# Altium footprint library 单灯控制器.PcbLib: 58 footprints (part 3 of 4)
Each footprint in its own frame and in the unit in brackets; x right, y up, seen from the top. Pads: shape width x height; smd on the part's side, far side on the other; paste and mask are expansions set on the pad; w line width, h text height; cw(c..) or ccw(c..) is an arc to the next point about the centre after c.
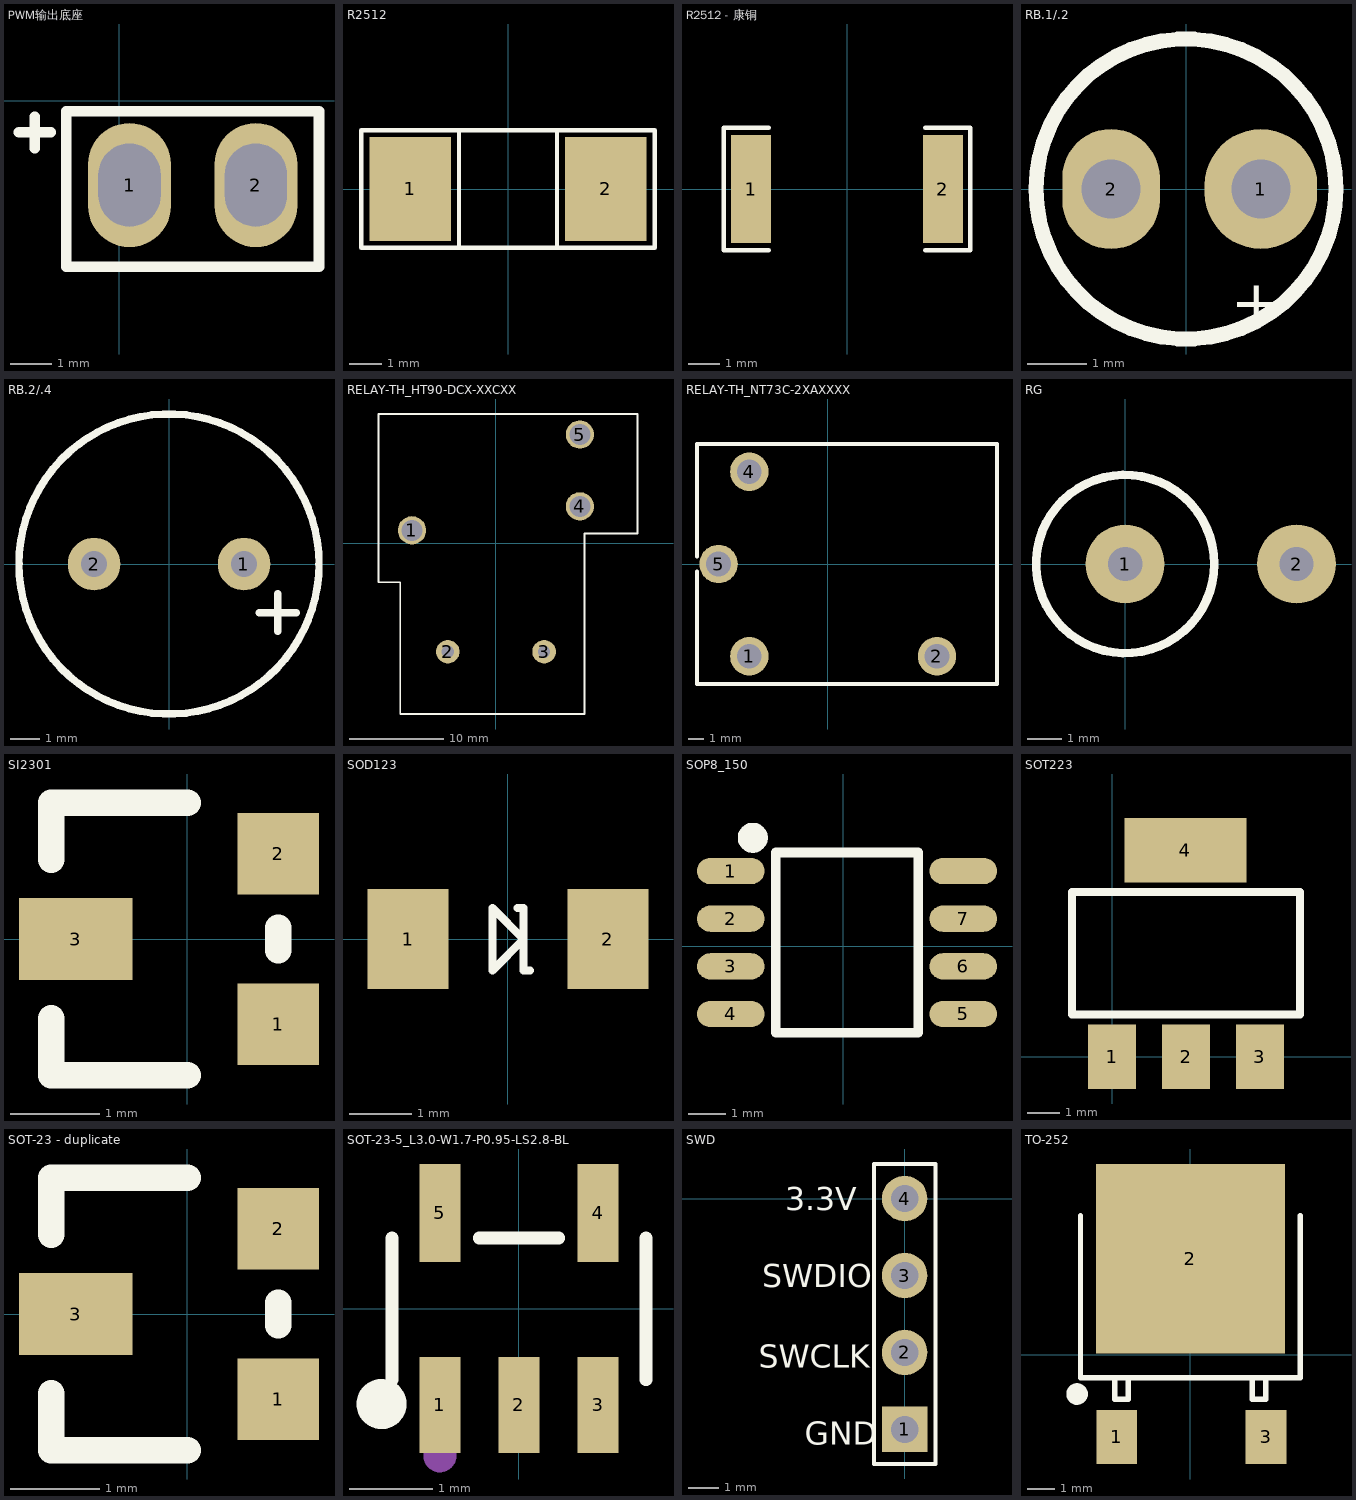
[diagram p2: the footprints below, top view; thin cyan lines are the x and y axes]

## PWM输出底座 [mm]
pads (2):
  oval 2x3 hole 2 slot 1.5 at 0 deg: 1(0.254,-2.032) 2(3.302,-2.032)
Top Overlay:
  lines w0.254: -2.413,-0.762 -1.651,-0.762 -2.159,-0.762 ; -2.032,-1.143 -2.032,-0.381 ; -1.27,-4 4.826,-4 4.826,-0.254 -1.27,-0.254 -1.27,-4

## R2512 [mm]
pads (2):
  rect 2.5x3.2 smd: 1(-3,0) 2(3,0)
Top Overlay:
  lines w0.127: -1.5,-1.8 -1.5,1.8 ; 1.5,-1.8 1.5,1.8 ; -4.5,-1.8 -4.5,1.8 4.5,1.8 4.5,-1.8 -4.5,-1.8

## R2512 - 康铜 [mm]
pads (2):
  rect 1.283x3.456 smd: 1(-3.066,0) 2(3.066,0)
Top Overlay:
  lines w0.152: -2.501,-1.957 -3.936,-1.957 -3.936,1.957 -2.501,1.957 ; 2.501,-1.957 3.936,-1.957 3.936,1.957 2.501,1.957
Top Paste:
  region: -2.425,-1.628 -2.425,-0.688 -2.525,-0.588 -2.761,-0.588 -2.861,-0.488 -2.861,0.488 -2.761,0.588 -2.525,0.588 -2.425,0.688 -2.425,1.628 -2.525,1.728 -3.608,1.728 -3.708,1.628 -3.708,-1.628 -3.608,-1.728 -2.525,-1.728
  region: 2.425,-1.628 2.425,-0.688 2.525,-0.588 2.761,-0.588 2.861,-0.488 2.861,0.488 2.761,0.588 2.525,0.588 2.425,0.688 2.425,1.628 2.525,1.728 3.608,1.728 3.708,1.628 3.708,-1.628 3.608,-1.728 2.525,-1.728

## RB.1/.2 [mil]
pads (2):
  oval 75x80 hole 39.37: 1(50,0)
  oval 65x80 hole 39.37: 2(-50,0)
Top Overlay:
  circle w10: c0,0 r100
  text "+" at 30,-90 h30

## RB.2/.4 [mil]
pads (2):
  round 70 hole 35: 1(100,0) 2(-100,0)
Top Overlay:
  circle w10: c0,0 r200
  lines w10: 120,-65 170,-65 ; 145,-90 145,-40

## RELAY-TH_HT90-DCX-XXCXX [mm]
pads (5):
  round 3 hole 2.2: 1(-8.9,1.35) 4(8.9,3.89) 5(8.9,11.51)
  round 2.5 hole 1.3: 2(-5.1,-11.51) 3(5.1,-11.51)
Top Overlay:
  lines w0.203: 9.254,-18.114 -10.146,-18.114 -10.146,-4.149 -12.446,-4.149 -12.446,13.687 15,13.687 15,1.03 9.4,1.03 9.4,-18.114 9.354,-18.114

## RELAY-TH_NT73C-2XAXXXX [mm]
pads (4):
  round 2.5 hole 1.6: 1(-5.1,-6) 2(7.1,-6) 4(-5.1,6) 5(-7.1,0)
Top Overlay:
  lines w0.254: -8.501,-0.475 -8.501,-7.8 11.001,-7.8 11.001,7.8 -8.501,7.8 -8.501,0.475

## RG [mm] "碳膜电阻立式"
pads (2):
  round 2.3 hole 1: 1(0,0) 2(5,0)
Top Overlay:
  circle w0.254: c0,0 r2.6

## SI2301 [mil]
pads (3):
  rect 35.98x35.98 smd: 1(40,-37.52) 2(40,37.52)
  rect 50x35.98 smd: 3(-49.2,0)
Top Overlay:
  lines w11.81: -60,-35 -60,-60 0,-60 ; -60,35 -60,60 0,60 ; 40,-5 40,5

## SOD123 [mm] "SOD123; Chip Diode; Body  2.7 x 1.6 mm (LxW typ)"
height 1.35
pads (2):
  rect 1.3x1.6 smd mask+0.05: 1(-1.6,0) 2(1.6,0)
Top Overlay:
  lines w0.127: 0.15,0.496 0.25,0.496 0.25,-0.504 0.35,-0.504 ; -0.25,-0.504 -0.25,0.496 0.25,-0.004 -0.25,-0.504

## SOP8_150 [mm]
pads (8):
  oval 1.8x0.7 smd: 1(-3,2) 2(-3,0.73) 3(-3,-0.54) 4(-3,-1.81) 5(3.198,-1.81) 6(3.198,-0.54) 7(3.198,0.73) ""(3.198,2)
Top Overlay:
  lines w0.254: -1.806,-2.305 2.004,-2.305 2.004,2.495 1.499,2.495 -1.806,2.495 -1.806,-2.305
  lines w0.4: -2.213,2.886 cw(c-2.413,2.888) -2.213,2.889

## SOT223 [mil]
pads (4):
  rect 59x79 smd: 1(0,0) 2(90.55,0) 3(181.1,0)
  rect 150x79 smd: 4(89.88,253.54)
Top Overlay:
  lines w10: -49.45,52 230.55,52 230.55,202 -49.45,202 -49.45,52

## SOT-23 - duplicate [mil]
pads (3):
  rect 35.98x35.98 smd: 1(40,-37.52) 2(40,37.52)
  rect 50x35.98 smd: 3(-49.2,0)
Top Overlay:
  lines w11.81: -60,-35 -60,-60 0,-60 ; -60,35 -60,60 0,60 ; 40,-5 40,5

## SOT-23-5_L3.0-W1.7-P0.95-LS2.8-BL [mm]
pads (5):
  rect 0.49x1.157 smd: 1(-0.95,-1.154) 2(0,-1.154) 3(0.95,-1.154)
  rect 0.49x1.175 smd: 4(0.95,1.154) 5(-0.95,1.154)
Top Overlay:
  circle w0.3: c-1.651,-1.143 r0.15
  lines w0.152: -1.526,-0.851 -1.526,0.851 ; -0.476,0.851 0.476,0.851 ; 1.526,-0.851 1.526,0.851
Mechanical 15:
  circle w0.2: c-0.95,-1.763 r0.1

## SWD [mm] "Connector; Header; 10x2 Position"
pads (4):
  rect 1.5x1.5 hole 0.9: 1(0,-7.62)
  round 1.5 hole 0.9: 2(0,-5.08) 3(0,-2.54) 4(0,0)
Top Overlay:
  lines w0.127: -1.016,-8.763 1.016,-8.763 1.016,1.143 -1.016,1.143 -1.016,-8.763
  text "3.3V" at -3.937,-0.381 h0.76
  text "SWDIO" at -4.699,-2.921 h0.76
  text "SWCLK" at -4.826,-5.588 h0.76
  text "GND" at -3.302,-8.128 h0.76

## TO-252 [mm]
pads (3):
  rect 1.5x2 smd: 1(-2.73,-3.048) 3(2.794,-3.048)
  rect 7x7 smd: 2(0,3.543)
Top Overlay:
  lines w0.201: -4.064,5.138 -4.064,-0.861 4.064,-0.861 4.064,5.138 ; -2.799,-0.963 -2.799,-1.661 -2.301,-1.661 -2.301,-0.963 ; 2.281,-0.963 2.281,-1.661 2.779,-1.661 2.779,-0.963
  lines w0.399: -4.392,-1.462 ccw(c-4.191,-1.46) -4.392,-1.459